# Altium schematic symbol library power.SchLib: 7 symbols
Pins are listed as number, name and electrical type; pins without a type are passive.

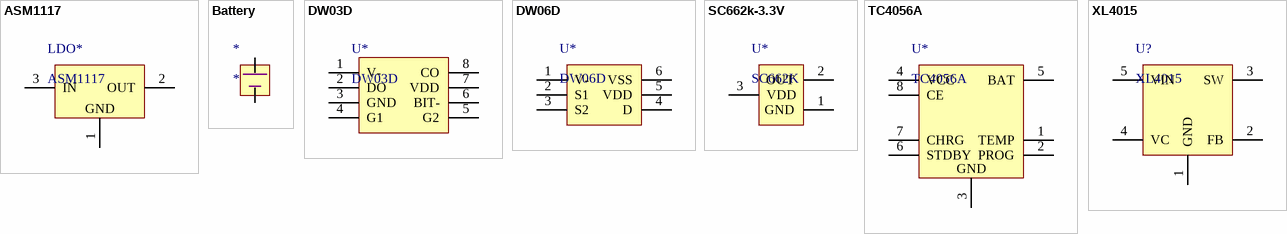
[diagram p0: symbols ASM1117 to XL4015]

## ASM1117
designator LDO*
线性稳压
footprint SOT-223 (ASM1117,)
pins: 1, 2 OUT, 3 IN
text: GND

## Battery
designator *
电池
footprint LI
pins: 1 +, 2

## DW03D
designator U*
锂电池保护
footprint SOP-8 (TC4056A 充电芯片)
pins: 1 V- (power), 2 DO, 3 GND, 4 G1, 5 G2, 6 BIT-, 7 VDD, 8 CO

## DW06D
designator U*
锂电池保护芯片
footprint SOT-23-6 (SX1308)
pins: 1 V-, 2 S1, 3 S2, 4 D, 5 VDD, 6 VSS

## SC662k-3.3V
designator U*, comment SC662K
3.3V 稳压芯片
footprint SOT-23
pins: 1 GND (oc), 2 OUT "3.3V 输出", 3 VDD "电源输入"

## TC4056A
designator U*
锂电池充电
footprint SOP-8 (TC4056A 充电芯片)
pins: 1 TEMP, 2 PROG, 3 GND, 4 VCC, 5 BAT, 6 STDBY, 7 CHRG, 8 CE

## XL4015
designator U?
开关降压型 DC-DC 转换芯片 最大5A 输出
pins: 1 GND, 2 FB, 3 SW, 4 VC, 5 VIN